# EAGLE library part TQ2?* (library relay)
LOW PROFILE 2 FORM C RELAY NAiS Source: http://www.mew-europe.com/.. en_ds_61020_0001.pdf Source: http://www.mew-europe.com/.. en_ds_61020_0004.pdf
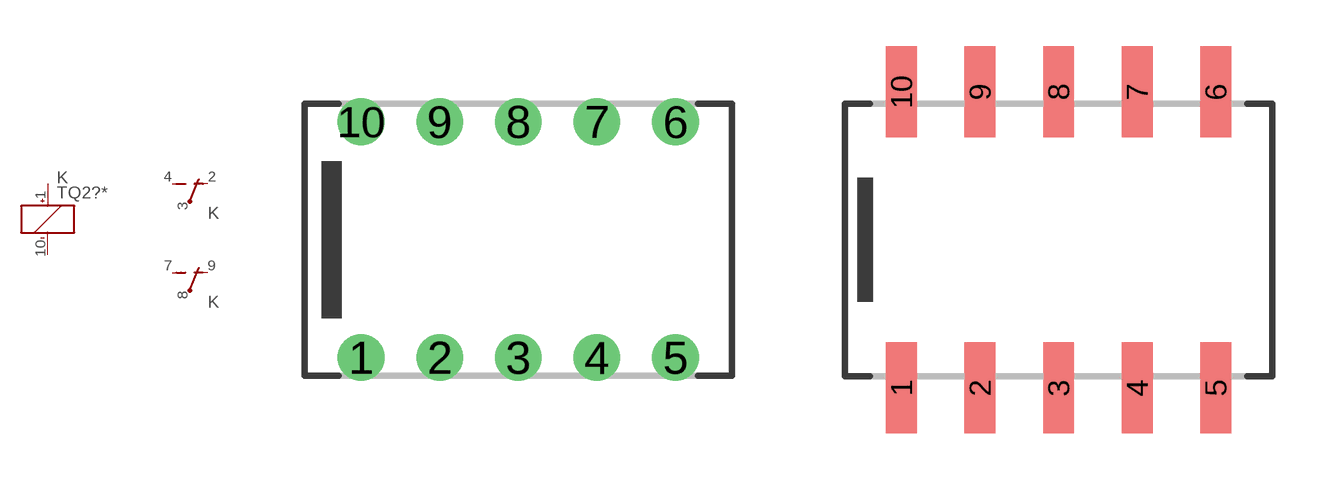
[diagram p75: symbol with the pads of TQ2; footprints TQ2, TQ-SA]

Designator prefix K; gates _=K+- 1=U 2=U

## TQ2-12V (MF: AROMAT/ MATSUSHITA; MPN: TQ2-12V; OC_FARNELL: 1200949; OC_NEWARK: 64K3197), TQ2-24V (MF: AROMAT/ MATSUSHITA; MPN: TQ2-24V; OC_FARNELL: 1175717; OC_NEWARK: 64K3198), TQ2-3V (MF: AROMAT/ MATSUSHITA; MPN: TQ2-3V; OC_FARNELL: 1703746; OC_NEWARK: 73K2455), TQ2-4.5V (MF: AROMAT/ MATSUSHITA; MPN: TQ2-4.5V; OC_FARNELL: 1163566; OC_NEWARK: 64K3199), TQ2-48V (MPN: TQ2-48V; OC_FARNELL: unknown; OC_NEWARK: 13P9197), TQ2-5V (MF: AROMAT/ MATSUSHITA; MPN: TQ2-5V; OC_FARNELL: 1175716; OC_NEWARK: 64K3200), TQ2-6V (MF: AROMAT/ MATSUSHITA; MPN: TQ2-6V; OC_FARNELL: unknown; OC_NEWARK: 64K3201), TQ2-9V (MPN: TQ2-9V; OC_FARNELL: unknown; OC_NEWARK: 13P9201)  [TQ2]
1  _:+  pas
2  1:O  pas
3  1:P  pas
4  1:S  pas
7  2:S  pas
8  2:P  pas
9  2:O  pas
10  _:-  pas

## TQ2-L-12V (MF: AROMAT/ MATSUSHITA; MPN: TQ2-L-12V; OC_FARNELL: unknown; OC_NEWARK: 64K3190), TQ2-L-24V (OC_FARNELL: unknown; OC_NEWARK: unknown), TQ2-L-3V (MF: AROMAT/ MATSUSHITA; MPN: TQ2-L-3V; OC_FARNELL: unknown; OC_NEWARK: 87F3168), TQ2-L-4.5V (MPN: TQ2-L-4.5V; OC_FARNELL: unknown; OC_NEWARK: 15P9767), TQ2-L-5V (MF: AROMAT/ MATSUSHITA; MPN: TQ2-L-5V; OC_FARNELL: 1448361; OC_NEWARK: 64K3191), TQ2-L-6V (OC_FARNELL: unknown; OC_NEWARK: unknown), TQ2-L-9V (OC_FARNELL: unknown; OC_NEWARK: unknown)  [TQ2]
1  _:-  pas
2  1:O  pas
3  1:P  pas
4  1:S  pas
7  2:S  pas
8  2:P  pas
9  2:O  pas
10  _:+  pas

## TQ2-SA-1.5V (MPN: TQ2SA-1.5V-Z; OC_FARNELL: unknown; OC_NEWARK: 13P9205), TQ2-SA-12V (MF: AROMAT/ MATSUSHITA; MPN: TQ2SA-12V; OC_FARNELL: 1124056; OC_NEWARK: 64K3203), TQ2-SA-24V (MPN: TQ2SA-24V; OC_FARNELL: unknown; OC_NEWARK: 13P9208), TQ2-SA-3V (MPN: TQ2SA-3V; OC_FARNELL: unknown; OC_NEWARK: 10C9847), TQ2-SA-4.5V (MPN: TQ2SA-4.5V; OC_FARNELL: unknown; OC_NEWARK: 92B3979), TQ2-SA-48V (MPN: TQ2SA-48V; OC_FARNELL: unknown; OC_NEWARK: 13P9215), TQ2-SA-5V (MF: AROMAT/ MATSUSHITA; MPN: TQ2SA-5V; OC_FARNELL: 1124054; OC_NEWARK: 64K3205), TQ2-SA-6V (MPN: TQ2SA-6V; OC_FARNELL: unknown; OC_NEWARK: 13P9219), TQ2-SA-9V (MPN: TQ2SA-9V; OC_FARNELL: unknown; OC_NEWARK: 13P9220)  [TQ-SA]
Pads as for TQ2

## TQ2SA-L-1.5V (OC_FARNELL: unknown; OC_NEWARK: unknown), TQ2SA-L-12V (MPN: TQ2SA-L-12V; OC_FARNELL: unknown; OC_NEWARK: 15P9777), TQ2SA-L-24V (OC_FARNELL: unknown; OC_NEWARK: unknown), TQ2SA-L-3V (MPN: TQ2SA-L-3V; OC_FARNELL: unknown; OC_NEWARK: 15P9778), TQ2SA-L-4.5V (MPN: TQ2SA-L-4.5V; OC_FARNELL: unknown; OC_NEWARK: 15P9779), TQ2SA-L-5V (MPN: TQ2SA-L-5V; OC_FARNELL: unknown; OC_NEWARK: 15P9780), TQ2SA-L-6V (OC_FARNELL: unknown; OC_NEWARK: unknown), TQ2SA-L-9V (OC_FARNELL: unknown; OC_NEWARK: unknown)  [TQ-SA]
Pads as for TQ2

## TQ2-SL-1.5V (OC_FARNELL: unknown; OC_NEWARK: unknown), TQ2-SL-12V (MPN: TQ2SL-12V; OC_FARNELL: unknown; OC_NEWARK: 13P9222), TQ2-SL-24V (MPN: TQ2SL-24V; OC_FARNELL: unknown; OC_NEWARK: 13P9224), TQ2-SL-3V (MPN: TQ2SL-3V; OC_FARNELL: unknown; OC_NEWARK: 13P9226), TQ2-SL-4.5V (OC_FARNELL: unknown; OC_NEWARK: unknown), TQ2-SL-5V (MPN: TQ2SL-5V; OC_FARNELL: unknown; OC_NEWARK: 13P9228), TQ2-SL-6V (OC_FARNELL: unknown; OC_NEWARK: unknown), TQ2-SL-9V (OC_FARNELL: unknown; OC_NEWARK: unknown)  [TQ-SL]
Pads as for TQ2

## TQ2SL-L-1.5V (OC_FARNELL: unknown; OC_NEWARK: unknown), TQ2SL-L-12V (OC_FARNELL: unknown; OC_NEWARK: unknown), TQ2SL-L-24V (MF: AROMAT/ MATSUSHITA; MPN: TQ2SL-L-24V; OC_FARNELL: unknown; OC_NEWARK: 10C9870), TQ2SL-L-3V (MPN: TQ2SL-L-3V; OC_FARNELL: unknown; OC_NEWARK: 15P9793), TQ2SL-L-4.5V (OC_FARNELL: unknown; OC_NEWARK: unknown), TQ2SL-L-5V (OC_FARNELL: unknown; OC_NEWARK: unknown), TQ2SL-L-6V (OC_FARNELL: unknown; OC_NEWARK: unknown), TQ2SL-L-9V (OC_FARNELL: unknown; OC_NEWARK: unknown)  [TQ-SL]
Pads as for TQ2

## TQ2-SS-1.5V (MPN: TQ2SS-1.5V; OC_FARNELL: unknown; OC_NEWARK: 13P9230), TQ2-SS-12V (MPN: TQ2SS-12V; OC_FARNELL: unknown; OC_NEWARK: 13P9231), TQ2-SS-24V (MPN: TQ2SS-24V-Z; OC_FARNELL: unknown; OC_NEWARK: 13P9232), TQ2-SS-3V (MF: AROMAT/ MATSUSHITA; MPN: TQ2SS-3V; OC_FARNELL: unknown; OC_NEWARK: 10C9995), TQ2-SS-4.5V (MPN: TQ2SS-4.5V; OC_FARNELL: unknown; OC_NEWARK: 13P9234), TQ2-SS-48V (MF: AROMAT/ MATSUSHITA; MPN: TQ2SS-48V; OC_FARNELL: unknown; OC_NEWARK: 11C0002), TQ2-SS-5V (MF: AROMAT/ MATSUSHITA; MPN: TQ2SS-5V; OC_FARNELL: unknown; OC_NEWARK: 11C0005), TQ2-SS-6V (OC_FARNELL: unknown; OC_NEWARK: unknown), TQ2-SS-9V (OC_FARNELL: unknown; OC_NEWARK: unknown)  [TQ-SS]
Pads as for TQ2

## TQ2SS-L-1.5V (OC_FARNELL: unknown; OC_NEWARK: unknown), TQ2SS-L-12V (OC_FARNELL: unknown; OC_NEWARK: unknown), TQ2SS-L-24V (OC_FARNELL: unknown; OC_NEWARK: unknown), TQ2SS-L-3V (OC_FARNELL: unknown; OC_NEWARK: unknown), TQ2SS-L-4.5V (MF: AROMAT/ MATSUSHITA; MPN: TQ2SS-L-4.5V; OC_FARNELL: unknown; OC_NEWARK: 10C9950), TQ2SS-L-5V (MPN: TQ2SS-L-5V; OC_FARNELL: unknown; OC_NEWARK: 15P9797), TQ2SS-L-6V (OC_FARNELL: unknown; OC_NEWARK: unknown), TQ2SS-L-9V (OC_FARNELL: unknown; OC_NEWARK: unknown)  [TQ-SS]
Pads as for TQ2

## Footprint TQ2 (pad centres in mm)
LOW PROFILE 2 FORM C RELAY NAiS Source: http://www.mew-europe.com/.. en_ds_61020_0001.pdf
drill 1: 1 -5.08,-3.81; 2 -2.54,-3.81; 3 0,-3.81; 4 2.54,-3.81; 5 5.08,-3.81; 6 5.08,3.81; 7 2.54,3.81; 8 0,3.81; 9 -2.54,3.81; 10 -5.08,3.81

## Footprint TQ-SA (pad centres in mm)
LOW-PROFILE TQ-SMD RELAYS NAiS Source: http://www.mew-europe.com/.. en_ds_61021_0004.pdf
smd 1 x 2.94: 1 -5.08,-4.78; 2 -2.54,-4.78; 3 0,-4.78; 4 2.54,-4.78; 5 5.08,-4.78; 6 5.08,4.78; 7 2.54,4.78; 8 0,4.78; 9 -2.54,4.78; 10 -5.08,4.78

## Footprint TQ-SL (pad centres in mm)
LOW-PROFILE TQ-SMD RELAYS NAiS Source: http://www.mew-europe.com/.. en_ds_61021_0004.pdf
smd 1 x 2.94: 1 -5.08,-4.78; 2 -2.54,-4.78; 3 0,-4.78; 4 2.54,-4.78; 5 5.08,-4.78; 6 5.08,4.78; 7 2.54,4.78; 8 0,4.78; 9 -2.54,4.78; 10 -5.08,4.78

## Footprint TQ-SS (pad centres in mm)
LOW-PROFILE TQ-SMD RELAYS NAiS Source: http://www.mew-europe.com/.. en_ds_61021_0004.pdf
smd 1 x 1.84: 1 -5.08,-4.23; 2 -2.54,-4.23; 3 0,-4.23; 4 2.54,-4.23; 5 5.08,-4.23; 6 5.08,4.23; 7 2.54,4.23; 8 0,4.23; 9 -2.54,4.23; 10 -5.08,4.23